# Altium footprint library SMP 0805.PcbLib: 1 footprints
Each footprint in its own frame and in the unit in brackets; x right, y up, seen from the top. Pads: shape width x height; smd on the part's side, far side on the other; paste and mask are expansions set on the pad; w line width, h text height; cw(c..) or ccw(c..) is an arc to the next point about the centre after c.
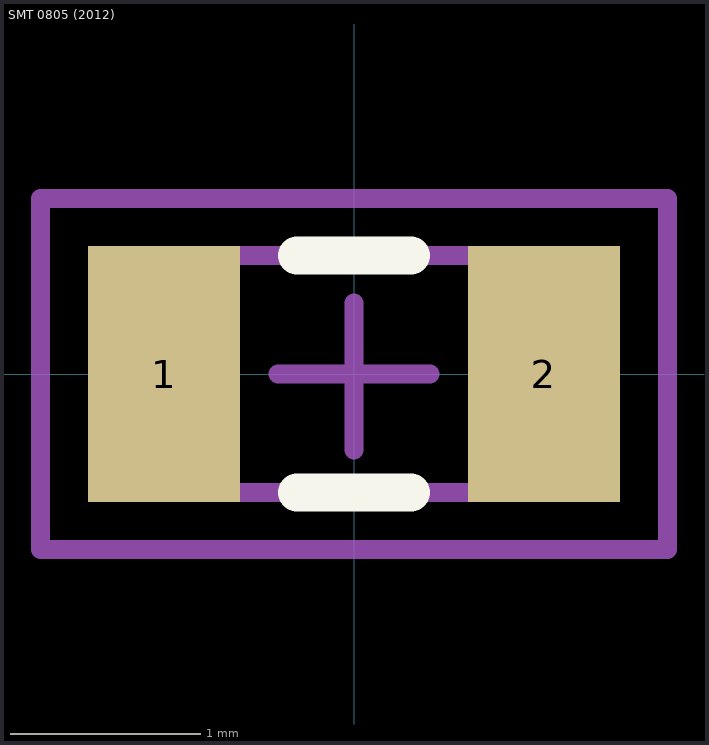
[diagram p0: the footprint, top view; thin cyan lines are the x and y axes]

## SMT 0805 (2012) [mm] "SMT 0805(2012)"
pads (2):
  rect 0.8x1.35 smd: 1(-1,0) 2(1,0)
Top Overlay:
  lines w0.2: -0.3,-0.625 0.3,-0.625 ; -0.3,0.625 0.3,0.625
Mechanical 13:
  lines w0.1: -0.7,-0.625 -0.7,0.625 ; 0.7,-0.625 0.7,0.625 ; -1,-0.625 1,-0.625 1,0.625 -1,0.625 -1,-0.625
Mechanical 15:
  lines w0.1: -0.4,0 0.4,0 ; 0,-0.4 0,0.375 ; -1.65,-0.925 1.65,-0.925 1.65,0.925 -1.65,0.925 -1.65,-0.925
3D body: height 0.8, standoff 0, extent 0.7,-0.625 1,0.625
3D body: height 0.8, standoff 0, extent -1,-0.625 -0.7,0.625
3D body: height 0.8, standoff 0, extent -0.7,-0.625 0.7,0.625